# Altium schematic symbol library ADA4637-1.SchLib: 1 symbol
Pins are listed as number, name and electrical type; pins without a type are passive.

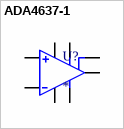
[diagram p0: symbol ADA4637-1]

## ADA4637-1
designator U?
pins: 1, 2, 3, 4, 5, 6, 7 Vcc, 8